# Altium schematic symbol library BAT760-7.Schlib: 1 symbol
Pins are listed as number, name and electrical type; pins without a type are passive.

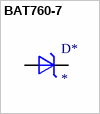
[diagram p0: symbol BAT760-7]

## BAT760-7
designator D*
30V 1A 550mV @ 1A SOD-323 Schottky Barrier Diodes (SBD) RoHS; ComponentLink1Description: LCSC - Diodes Incorporated BAT760-7; ComponentLink1URL: https://lcsc.com/product-detail/Schottky-Barrier-Diodes-SBD_DIODES_BAT760-7_BAT760-7_C124187.html/?href=jlc-SMT; LCSC Part #: C124187
footprint SOD-323
pins: 1 A, 2 K